# EAGLE library part LH52256CHN (library memory-sram)
MEMORY
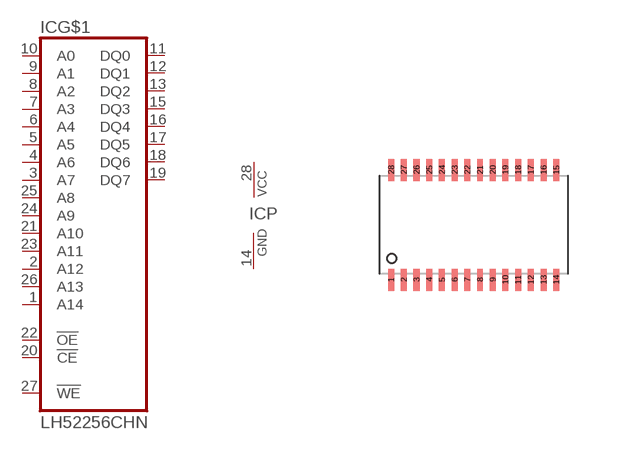
[diagram p6: symbol with the pads of SOP28; footprint SOP28]

Designator prefix IC; gates G$1=LH52256 P=PWRN

## LH52256CHN  [SOP28]
1  G$1:A14  in
2  G$1:A12  in
3  G$1:A7  in
4  G$1:A6  in
5  G$1:A5  in
6  G$1:A4  in
7  G$1:A3  in
8  G$1:A2  in
9  G$1:A1  in
10  G$1:A0  in
11  G$1:DQ0
12  G$1:DQ1
13  G$1:DQ2
14  P:GND  pwr
15  G$1:DQ3
16  G$1:DQ4
17  G$1:DQ5
18  G$1:DQ6
19  G$1:DQ7
20  G$1:!CE  in
21  G$1:A10  in
22  G$1:!OE  in
23  G$1:A11  in
24  G$1:A9  in
25  G$1:A8  in
26  G$1:A13  in
27  G$1:!WE  in
28  P:VCC  pwr

## Footprint SOP28 (pad centres in mm)
Small Outline Package
smd 0.15 x 0.55: 1 -2.064,-1.375; 2 -1.746,-1.375; 3 -1.429,-1.375; 4 -1.111,-1.375; 5 -0.794,-1.375; 6 -0.476,-1.375; 7 -0.159,-1.375; 8 0.159,-1.375; 9 0.476,-1.375; 10 0.794,-1.375; 11 1.111,-1.375; 12 1.429,-1.375; 13 1.746,-1.375; 14 2.064,-1.375; 15 2.064,1.375; 16 1.746,1.375; 17 1.429,1.375; 18 1.111,1.375; 19 0.794,1.375; 20 0.476,1.375; 21 0.159,1.375; 22 -0.159,1.375; 23 -0.476,1.375; 24 -0.794,1.375; 25 -1.111,1.375; 26 -1.429,1.375; 27 -1.746,1.375; 28 -2.064,1.375